# Altium footprint library DSOD-523 - STMicroelectronics.PcbLib: 1 footprints
Each footprint in its own frame and in the unit in brackets; x right, y up, seen from the top. Pads: shape width x height; smd on the part's side, far side on the other; paste and mask are expansions set on the pad; w line width, h text height; cw(c..) or ccw(c..) is an arc to the next point about the centre after c.
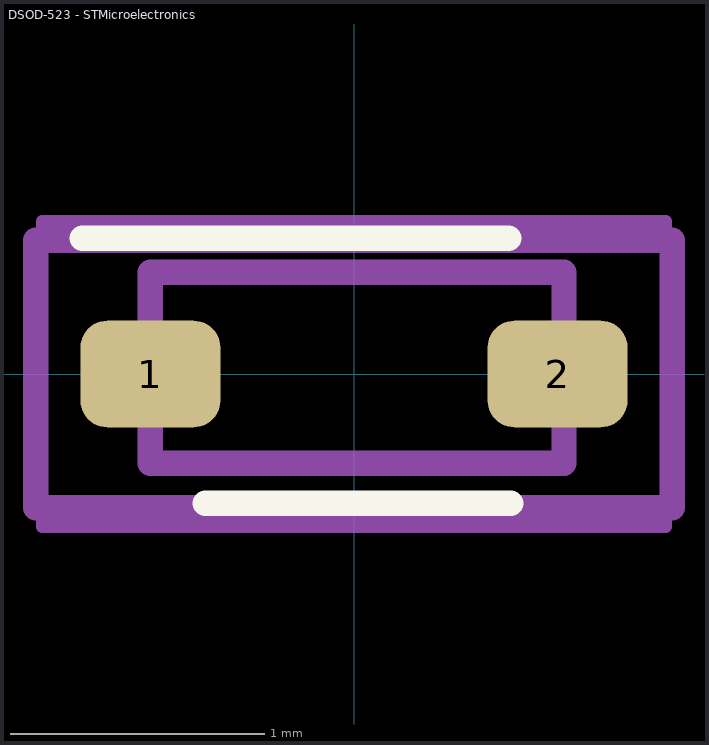
[diagram p0: the footprint, top view; thin cyan lines are the x and y axes]

## DSOD-523 - STMicroelectronics [mm]
pads (2):
  rrect50% 0.55x0.42 smd: 1(-0.8,0) 2(0.8,0)
Top Overlay:
  lines w0.1: -1.067,0.533 0.608,0.533 ; -0.584,-0.508 0.616,-0.508
Mechanical 13:
  lines w0.1: -0.8,-0.35 -0.8,0.4 0.825,0.4 0.825,-0.35 -0.8,-0.35
Mechanical 15:
  lines w0.1: -1.25,-0.525 -1.25,0.525 1.25,0.525 1.25,-0.525 -1.25,-0.525
Mechanical 20:
  lines w0.05: -1.225,-0.6 -1.225,0.6 1.225,0.6 1.225,-0.6 -1.225,-0.6
Top Designator:
  text ".Designator" at -1.004,-0.112 h0.25
3D body "BAT41KFILM.stp": height 0.7, standoff 0, extent -0.825,-0.375 0.775,0.425